# Altium schematic symbol library ADC.SchLib: 1 symbol
Pins are listed as number, name and electrical type; pins without a type are passive.

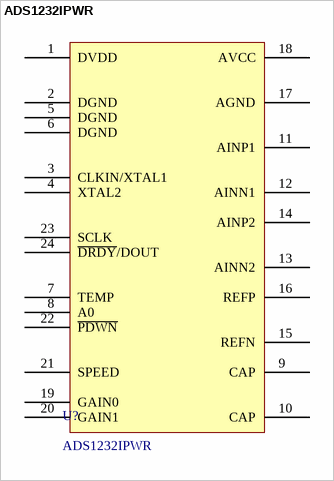
[diagram p0: symbol ADS1232IPWR]

## ADS1232IPWR
designator U?
24 2.7V~5.3V 10Hz SPI TSSOP-24 Analog to Digital Converters (ADC) ROHS; Manufacturer: Texas Instruments; Supply Voltage - Max: 5.3 V; Supply Voltage - Min: 2.7 V; Architecture: Sigma-Delta; Input Type: Differential/Single-Ended; Integral Nonlinearity: 168 LSB; Interface Type: I2C, SPI; Number of Channels: 2 Channel; Number of Converters: 1 converter; Power Consumption: 4.3 mW; Power Dissipation: 13.1 mW; Reference Type: External; Reference Voltage: 5 V; Resolution: 24 bit; Sampling Rate: 10 S/s / 80 S/s; ComponentLink1Description: Datasheet; ComponentLink1URL: https://www.lcsc.com/datasheet/C27919.pdf; LCSC Part #: C27919; Manufacturer Part Number: ADS1232IPWR; Mount: SMD/SMT; Operating Temperature Max: + 105 C; Operating Temperature Min: - 40 C; Package / Case: TSSOP-24; Packaging: Tape and Reel; Supplier 1: Mouser; Supplier 1 Part Number: N/A; Supplier 1 URL: N/A; Supplier 2: Digi-Key; Supplier 2 Part Number: N/A; Supplier 2 URL: N/A; Supplier 3: thegioiic; Supplier 3 Part Number: N/A; Supplier 3 URL: N/A; Value: ADS1232IPWR; Features: 50/60 Hz Rejection, Oscillator, PGA; Moisture Sensitive: Yes
footprint PW(R-PDSO-G24) (TSOP, 24-Leads, Body 7.80x4.40mm, Pitch 0.65mm, IPC Medium Density)
pins: 1 DVDD, 2 DGND, 3 CLKIN/XTAL1, 4 XTAL2, 5 DGND, 6 DGND, 7 TEMP, 8 A0, 9 CAP, 10 CAP, 11 AINP1, 12 AINN1, 13 AINN2, 14 AINP2, 15 REFN, 16 REFP, 17 AGND, 18 AVCC, 19 GAIN0, 20 GAIN1, 21 SPEED, 22 ~{PDWN}, 23 SCLK, 24 ~{DRDY}/DOUT